# Altium footprint library SCD41DR2.PcbLib: 1 footprints
Each footprint in its own frame and in the unit in brackets; x right, y up, seen from the top. Pads: shape width x height; smd on the part's side, far side on the other; paste and mask are expansions set on the pad; w line width, h text height; cw(c..) or ccw(c..) is an arc to the next point about the centre after c.
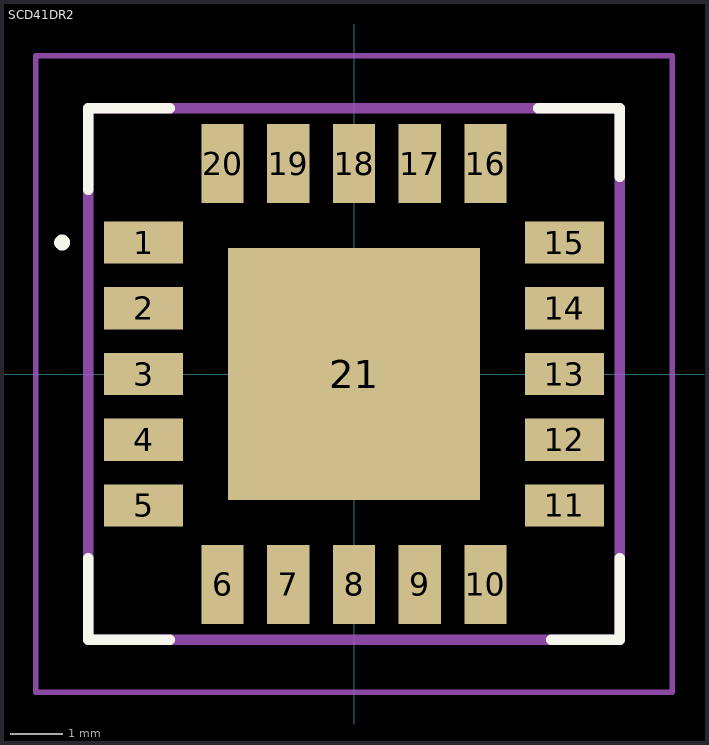
[diagram p0: the footprint, top view; thin cyan lines are the x and y axes]

## SCD41DR2 [mm]
pads (21):
  rect 1.5x0.8 smd: 1(-4,2.5) 2(-4,1.25) 3(-4,0) 4(-4,-1.25) 5(-4,-2.5) 11(4,-2.5) 12(4,-1.25) 13(4,0) 14(4,1.25) 15(4,2.5)
  rect 0.8x1.5 smd: 6(-2.5,-4) 7(-1.25,-4) 8(0,-4) 9(1.25,-4) 10(2.5,-4) 16(2.5,4) 17(1.25,4) 18(0,4) 19(-1.25,4) 20(-2.5,4)
  rect 4.8x4.8 smd: 21(0,0)
Top Overlay:
  lines w0.2: -5.6,2.5 -5.6,2.5 ; -5.6,2.5 ccw(c-5.55,2.5) -5.5,2.5 ; -5.6,2.5 cw(c-5.55,2.5) -5.5,2.5 ; -5.6,2.5 -5.6,2.5 ; -5.6,2.5 ccw(c-5.55,2.5) -5.5,2.5 ; -5.5,2.5 -5.5,2.5 ; -5.05,-5.05 -3.5,-5.05 ; -5.05,-5.05 -5.05,-5.05 ; -5.05,-5.05 -3.5,-5.05 ; -5.05,-5.05 -5.05,-5.05 ; -5.05,-5.05 -5.05,-3.5 ; -5.05,-5.05 -5.05,-3.5 ; -5.05,-3.5 -5.05,-3.5 ; -5.05,3.5 -5.05,3.5 ; -5.05,3.5 -5.05,5.05 ; -5.05,3.5 -5.05,5.05 ; -5.05,5.05 -5.05,5.05 ; -5.05,5.05 -3.5,5.05 ; -5.05,5.05 -3.5,5.05 ; -5.05,5.05 -5.05,5.05 ; -3.5,-5.05 -3.5,-5.05 ; -3.5,5.05 -3.5,5.05 ; 3.5,5.05 5.05,5.05 ; 3.5,5.05 5.05,5.05 ; 3.5,5.05 3.5,5.05 ; 3.75,-5.05 5.05,-5.05 ; 3.75,-5.05 5.05,-5.05 ; 3.75,-5.05 3.75,-5.05 ; 5.05,-5.05 5.05,-3.5 ; 5.05,-5.05 5.05,-5.05 ; 5.05,-5.05 5.05,-3.5 ; 5.05,-5.05 5.05,-5.05 ; 5.05,-3.5 5.05,-3.5 ; 5.05,3.75 5.05,5.05 ; 5.05,3.75 5.05,3.75 ; 5.05,3.75 5.05,5.05 ; 5.05,5.05 5.05,5.05 ; 5.05,5.05 5.05,5.05
Mechanical 15:
  lines w0.2: -5.05,-5.05 5.05,-5.05 5.05,5.05 -5.05,5.05 -5.05,-5.05
Mechanical 20:
  lines w0.1: -6.05,-6.05 6.05,-6.05 6.05,6.05 -6.05,6.05 -6.05,-6.05